# Altium schematic symbol library SCH - ARM CORTEX - STM STM8L101G3UxA.SchLib: 1 symbol
Pins are listed as number, name and electrical type; pins without a type are passive.

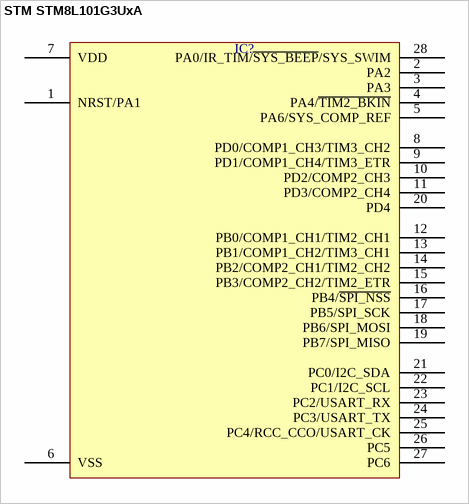
[diagram p0: symbol STM STM8L101G3UxA]

## STM STM8L101G3UxA
designator IC?  (value not drawn)
pins: 1 NRST/PA1, 2 PA2, 3 PA3, 4 PA4/~{TIM2_BKIN}, 5 PA6/SYS_COMP_REF, 6 VSS, 7 VDD, 8 PD0/COMP1_CH3/TIM3_CH2, 9 PD1/COMP1_CH4/TIM3_ETR, 10 PD2/COMP2_CH3, 11 PD3/COMP2_CH4, 12 PB0/COMP1_CH1/TIM2_CH1, 13 PB1/COMP1_CH2/TIM3_CH1, 14 PB2/COMP2_CH1/TIM2_CH2, 15 PB3/COMP2_CH2/TIM2_ETR, 16 PB4/~{SPI_NSS}, 17 PB5/SPI_SCK, 18 PB6/SPI_MOSI, 19 PB7/SPI_MISO, 20 PD4, 21 PC0/I2C_SDA, 22 PC1/I2C_SCL, 23 PC2/USART_RX, 24 PC3/USART_TX, 25 PC4/RCC_CCO/USART_CK, 26 PC5, 27 PC6, 28 PA0/IR_TIM/~{SYS_BEEP}/SYS_SWIM